# EAGLE library part W5500 (library ic-WIZnet)
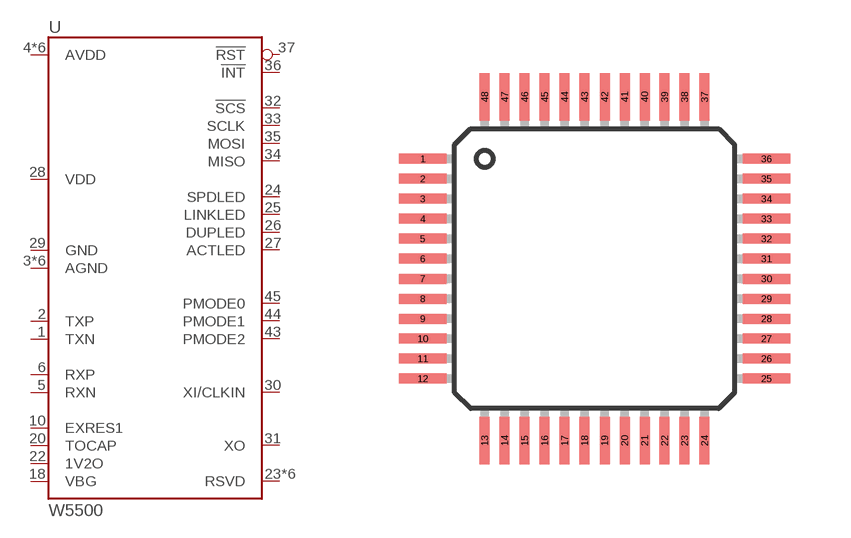
[diagram p0: symbol with the pads of QFP48-0.5; footprint QFP48-0.5]

Designator prefix U

## W5500  [QFP48-0.5]
1  TXN
2  TXP
3  AGND
4  AVDD
5  RXN
6  RXP
8  AVDD
9  AGND
10  EXRES1
11  AVDD
14  AGND
15  AVDD
16  AGND
17  AVDD
18  VBG
19  AGND
20  TOCAP
21  AVDD
22  1V2O
23  RSVD
24  SPDLED
25  LINKLED
26  DUPLED
27  ACTLED
28  VDD
29  GND
30  XI/CLKIN
31  XO
32  !SCS
33  SCLK
34  MISO
35  MOSI
36  !INT
37  !RST
38  RSVD
39  RSVD
40  RSVD
41  RSVD
42  RSVD
43  PMODE2
44  PMODE1
45  PMODE0
48  AGND

## Footprint QFP48-0.5 (pad centres in mm)
smd 1.2 x 0.25: 1 -4.3,2.75; 2 -4.3,2.25; 3 -4.3,1.75; 4 -4.3,1.25; 5 -4.3,0.75; 6 -4.3,0.25; 7 -4.3,-0.25; 8 -4.3,-0.75; 9 -4.3,-1.25; 10 -4.3,-1.75; 11 -4.3,-2.25; 12 -4.3,-2.75; 25 4.3,-2.75; 26 4.3,-2.25; 27 4.3,-1.75; 28 4.3,-1.25; 29 4.3,-0.75; 30 4.3,-0.25; 31 4.3,0.25; 32 4.3,0.75; 33 4.3,1.25; 34 4.3,1.75; 35 4.3,2.25; 36 4.3,2.75
smd 0.25 x 1.2: 13 -2.75,-4.3; 14 -2.25,-4.3; 15 -1.75,-4.3; 16 -1.25,-4.3; 17 -0.75,-4.3; 18 -0.25,-4.3; 19 0.25,-4.3; 20 0.75,-4.3; 21 1.25,-4.3; 22 1.75,-4.3; 23 2.25,-4.3; 24 2.75,-4.3; 37 2.75,4.3; 38 2.25,4.3; 39 1.75,4.3; 40 1.25,4.3; 41 0.75,4.3; 42 0.25,4.3; 43 -0.25,4.3; 44 -0.75,4.3; 45 -1.25,4.3; 46 -1.75,4.3; 47 -2.25,4.3; 48 -2.75,4.3